# Altium footprint library WE-PD4.PcbLib: 4 footprints
Each footprint in its own frame and in the unit in brackets; x right, y up, seen from the top. Pads: shape width x height; smd on the part's side, far side on the other; paste and mask are expansions set on the pad; w line width, h text height; cw(c..) or ccw(c..) is an arc to the next point about the centre after c.
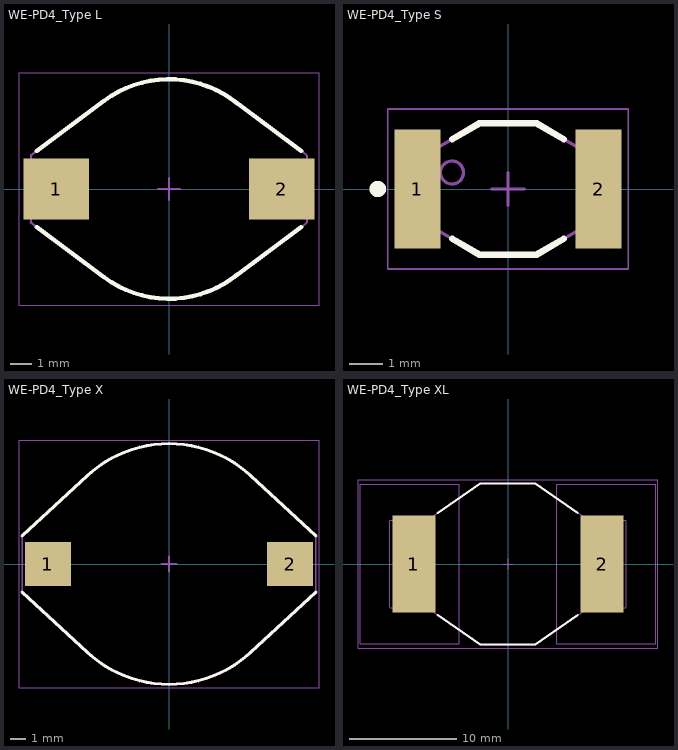
[diagram p0: the footprints below, top view; thin cyan lines are the x and y axes]

## WE-PD4_Type L [mm] "SMD Power Inductor, body 12.7x10mm"
height 5.3
pads (2):
  rect 3x2.8 smd: 1(-5.15,0) 2(5.15,0)
Top Overlay:
  lines w0.2: -6.038,-1.735 -2.962,-4.031 ; -6.038,1.735 -2.962,4.031 ; -2.953,-4.035 ccw(c0.001,-0.06) 3.132,-3.898 ; -2.953,4.035 cw(c0.001,0.06) 3.132,3.898 ; 2.962,-4.031 6.038,-1.735 ; 2.962,4.031 6.038,1.735
Top Assembly:
  lines w0.1: -6.317,-1.526 -2.962,-4.031 ; -6.309,-1.518 -6.309,1.532 -2.962,4.031 ; -2.953,-4.035 ccw(c0.001,-0.06) 3.132,-3.898 ; -2.953,4.035 cw(c0.001,0.06) 3.132,3.898 ; 2.984,-4.014 6.239,-1.585 ; 2.984,4.014 6.239,1.585 ; 6.309,-1.518 6.309,1.532
Top Designator:
  text ".Designator" at -3.647,-0.357 h1
Top 3D Body:
  lines w0.1: -6.317,-1.526 -2.962,-4.031 ; -6.309,-1.518 -6.309,1.532 -2.962,4.031 ; -2.953,-4.035 ccw(c0.001,-0.06) 3.132,-3.898 ; -2.953,4.035 cw(c0.001,0.06) 3.132,3.898 ; 2.984,-4.014 6.239,-1.585 ; 2.984,4.014 6.239,1.585 ; 6.309,-1.518 6.309,1.532
Top Courtyard:
  lines w0.05: -6.85,-5.3 -6.85,5.3 6.85,5.3 6.85,-5.3 -6.85,-5.3
Top Component Center:
  lines w0.1: -0.5,0 0.5,0 ; 0,-0.5 0,0.5
3D body "74456xx.stp": height 5.02, standoff 0.02, extent -6.35,-5 6.35,5

## WE-PD4_Type S [mm] "SMD Power Inductor, body 6.6x4.45mm"
height 2.92
pads (2):
  rect 1.4x3.6 smd: 1(-2.75,0) 2(2.75,0)
Top Overlay:
  circle w0.25: c-3.95,0 r0.125
  lines w0.2: -1.697,-1.508 -0.85,-2 0.85,-2 1.697,-1.508 ; -1.697,1.508 -0.85,2 0.85,2 1.697,1.508
Top Assembly:
  circle w0.1: c-1.7,0.5 r0.35
  lines w0.1: -3.175,-0.65 -3.175,0.65 -0.85,2 0.85,2 3.175,0.65 3.175,-0.65 0.85,-2 -0.85,-2 -3.175,-0.65
Top Designator:
  text ".Designator" at -3.647,-0.357 h1
Top 3D Body:
  lines w0.1: -3.175,-0.65 -3.175,0.65 -0.85,2 0.85,2 3.175,0.65 3.175,-0.65 0.85,-2 -0.85,-2 -3.175,-0.65
Top Courtyard:
  lines w0.05: -3.65,-2.425 3.65,-2.425 3.65,2.425 -3.65,2.425 -3.65,-2.425
Top Component Center:
  lines w0.1: -0.5,0 0.5,0 ; 0,-0.5 0,0.5
3D body "74455xxx.stp": height 2.92, standoff 0.02, extent -3.175,-2 3.175,2

## WE-PD4_Type X [mm] "SMD Power Inductor, body 18.5x15.2mm"
height 7.1
pads (2):
  rect 2.9x2.8 smd: 1(-7.65,0) 2(7.65,0)
Top Overlay:
  lines w0.2: -9.27,-1.774 -5.162,-5.579 ; -9.27,1.774 -5.162,5.579 ; -5.162,-5.578 ccw(c0,0) 5.162,-5.578 ; -5.162,5.578 cw(c0,0) 5.162,5.578 ; 5.162,-5.579 9.27,-1.774 ; 5.162,5.579 9.27,1.774
Top Assembly:
  lines w0.1: -9.27,-1.774 -9.27,1.774 -5.162,5.579 ; -9.27,-1.774 -5.162,-5.579 ; -5.162,-5.578 ccw(c0,0) 5.162,-5.578 ; -5.162,5.578 cw(c0,0) 5.162,5.578 ; 5.162,-5.579 9.27,-1.774 ; 5.162,5.579 9.27,1.774 ; 9.27,-1.774 9.27,1.774
Top Designator:
  text ".Designator" at -3.647,-0.357 h1
Top 3D Body:
  lines w0.1: -9.27,-1.774 -9.27,1.774 -5.162,5.579 ; -9.27,-1.774 -5.162,-5.579 ; -5.162,-5.578 ccw(c0,0) 5.162,-5.578 ; -5.162,5.578 cw(c0,0) 5.162,5.578 ; 5.162,-5.579 9.27,-1.774 ; 5.162,5.579 9.27,1.774 ; 9.27,-1.774 9.27,1.774
Top Courtyard:
  lines w0.05: -9.47,-7.82 9.47,-7.82 9.47,7.82 -9.47,7.82 -9.47,-7.82
Top Component Center:
  lines w0.1: -0.5,0 0.5,0 ; 0,-0.5 0,0.5
3D body "74458xx.stp": height 7.15, standoff 0.04, extent -9.27,-7.62 9.27,7.62

## WE-PD4_Type XL [mm] "SMD Power Inductor, body 22x15mm"
height 7.8
pads (2):
  rect 4x9 smd: 1(-8.75,0) 2(8.75,0)
Top Overlay:
  lines w0.2: -6.526,-4.751 -2.6,-7.5 ; -6.526,4.751 -2.6,7.5 ; -2.55,-7.5 2.55,-7.5 6.476,-4.751 ; -2.55,7.5 2.55,7.5 6.476,4.751
Assembly Notes:
  lines w0.1: -13.75,-7.4 -13.75,7.4 -4.55,7.4 -4.55,-7.4 -13.75,-7.4 ; 4.55,-7.4 4.55,7.4 13.75,7.4 13.75,-7.4 4.55,-7.4
  text "Reserved PCB Area" at 5.9,-6.5 h0.51
  text "Reserved PCB Area" at -12.7,-6.5 h0.51
Top Assembly:
  lines w0.1: -11,-4 -11,4 ; -10.954,-4.046 -7.532,-4.046 -2.6,-7.5 -2.55,-7.5 2.55,-7.5 ; -10.954,4.046 -7.532,4.046 -2.6,7.5 -2.55,7.5 2.55,7.5 ; 10.954,-4.046 7.532,-4.046 2.6,-7.5 ; 10.954,4.046 7.532,4.046 2.6,7.5 ; 11,-4 11,4 ; 2.55,-7.5 2.6,-7.5 ; 2.55,-7.5 2.6,-7.5 ; 2.55,7.5 2.6,7.5 ; 2.55,7.5 2.6,7.5
Top Designator:
  text ".Designator" at -3.647,-0.357 h1
Top 3D Body:
  lines w0.1: -11,-4 -11,4 ; -10.954,-4.046 -7.532,-4.046 -2.6,-7.5 -2.55,-7.5 2.55,-7.5 ; -10.954,4.046 -7.532,4.046 -2.6,7.5 -2.55,7.5 2.55,7.5 ; 10.954,-4.046 7.532,-4.046 2.6,-7.5 ; 10.954,4.046 7.532,4.046 2.6,7.5 ; 11,-4 11,4 ; 2.55,-7.5 2.6,-7.5 ; 2.55,-7.5 2.6,-7.5 ; 2.55,7.5 2.6,7.5 ; 2.55,7.5 2.6,7.5
Top Courtyard:
  lines w0.05: -13.95,-7.85 -13.95,7.85 13.95,7.85 13.95,-7.85 -13.95,-7.85
Top Component Center:
  lines w0.1: -0.5,0 0.5,0 ; 0,-0.5 0,0.5
3D body "74457xx.stp": height 7.02, standoff 0.02, extent -11,-7.5 11,7.5